# Altium footprint library CD74HC4067M.PcbLib: 1 footprints
Each footprint in its own frame and in the unit in brackets; x right, y up, seen from the top. Pads: shape width x height; smd on the part's side, far side on the other; paste and mask are expansions set on the pad; w line width, h text height; cw(c..) or ccw(c..) is an arc to the next point about the centre after c.
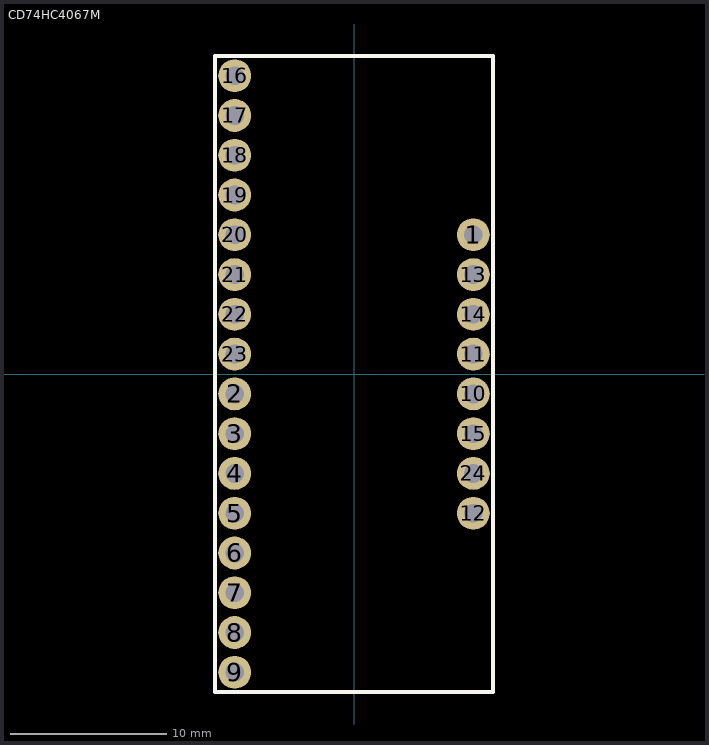
[diagram p0: the footprint, top view; thin cyan lines are the x and y axes]

## CD74HC4067M [mm]
pads (24):
  round 2.1 hole 1.2: 1(7.62,8.89) 2(-7.62,-1.27) 3(-7.62,-3.81) 4(-7.62,-6.35) 5(-7.62,-8.89) 6(-7.62,-11.43) 7(-7.62,-13.97) 8(-7.62,-16.51) 9(-7.62,-19.05) 10(7.62,-1.27) 11(7.62,1.27) 12(7.62,-8.89) 13(7.62,6.35) 14(7.62,3.81) 15(7.62,-3.81) 16(-7.62,19.05) 17(-7.62,16.51) 18(-7.62,13.97) 19(-7.62,11.43) 20(-7.62,8.89) 21(-7.62,6.35) 22(-7.62,3.81) 23(-7.62,1.27) 24(7.62,-6.35)
Top Overlay:
  lines w0.254: -8.89,-20.32 -7.62,-20.32 8.89,-20.32 8.89,20.32 -8.89,20.32 -8.89,-20.32